# Altium footprint library SnapEDApcb.PcbLib: 1 footprints
Each footprint in its own frame and in the unit in brackets; x right, y up, seen from the top. Pads: shape width x height; smd on the part's side, far side on the other; paste and mask are expansions set on the pad; w line width, h text height; cw(c..) or ccw(c..) is an arc to the next point about the centre after c.
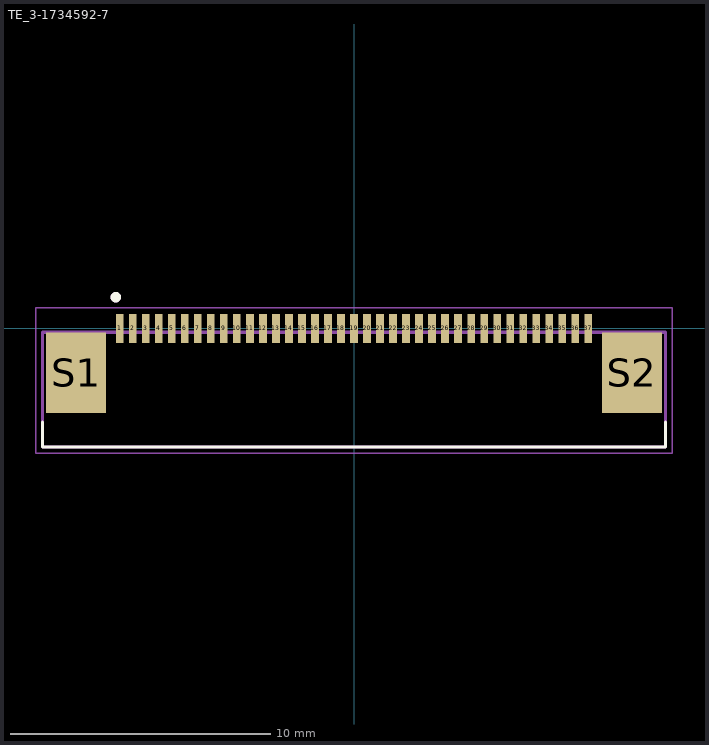
[diagram p0: the footprint, top view; thin cyan lines are the x and y axes]

## TE_3-1734592-7 [mm]
pads (39):
  rect 0.3x1.1 smd: 1(-9,0) 2(-8.5,0) 3(-8,0) 4(-7.5,0) 5(-7,0) 6(-6.5,0) 7(-6,0) 8(-5.5,0) 9(-5,0) 10(-4.5,0) 11(-4,0) 12(-3.5,0) 13(-3,0) 14(-2.5,0) 15(-2,0) 16(-1.5,0) 17(-1,0) 18(-0.5,0) 19(0,0) 20(0.5,0) 21(1,0) 22(1.5,0) 23(2,0) 24(2.5,0) 25(3,0) 26(3.5,0) 27(4,0) 28(4.5,0) 29(5,0) 30(5.5,0) 31(6,0) 32(6.5,0) 33(7,0) 34(7.5,0) 35(8,0) 36(8.5,0) 37(9,0)
  rect 2.3x3.1 smd: S1(-10.67,-1.7) S2(10.67,-1.7)
Top Overlay:
  circle w0.2: c-9.15,1.2 r0.1
  lines w0.127: -11.965,-3.6 -11.965,-4.55 11.965,-4.55 11.965,-3.6
Mechanical 13:
  circle w0.2: c-9.15,1.2 r0.1
  lines w0.127: -11.965,-4.55 11.965,-4.55 11.965,-0.15 -11.965,-0.15 -11.965,-4.55
Mechanical 15:
  lines w0.05: -12.215,-4.8 12.215,-4.8 12.215,0.8 -12.215,0.8 -12.215,-4.8
3D body "c-3-1734592-7-c-3d.stp": height 2.02, standoff -0.03, extent -11.965,-5.09 11.965,0.02